# EAGLE library part LM741CN/NOPB (library LM741CN_NOPB)
Check availability <https://pricing.snapeda.com/parts/LM741CN/Texas%20Instruments/view-part?ref=eda>
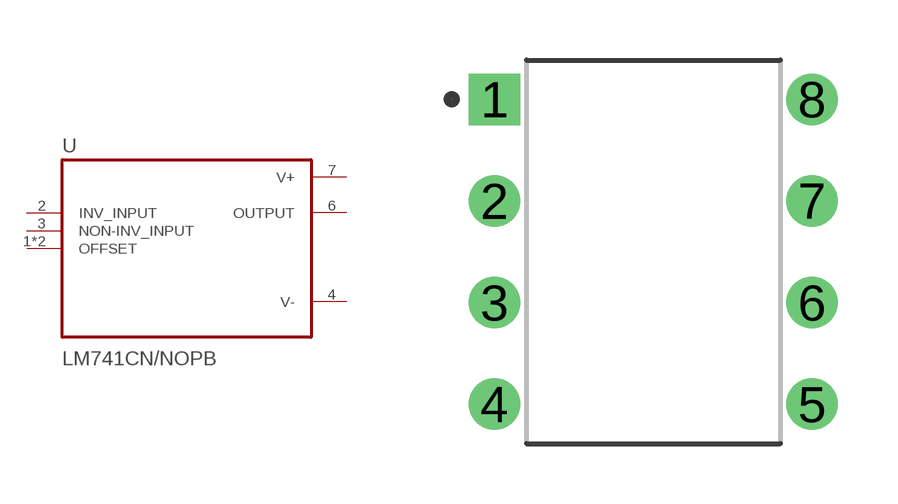
[diagram p0: symbol with the pads of DIP794W45P254L959H508Q8; footprint DIP794W45P254L959H508Q8]

Designator prefix U

## LM741CN/NOPB (Availability: In Stock; Check_prices: https://www.snapeda.com/parts/LM741CN/Texas+Instruments/view-part/?ref=eda; Description: Operational Amplifiers - Op Amps Operational Amplifier 8-PDIP 0 to 70; MF: Texas Instruments; MP: LM741CN; Package: DIP-8 NXP Semiconductors; Price: None; Purchase-URL: https://www.snapeda.com/api/url_track_click_mouser/?unipart_id=226044&manufacturer=Texas Instruments&part_name=LM741CN&search_term=lm741; SnapEDA_Link: https://www.snapeda.com/parts/LM741CN/Texas+Instruments/view-part/?ref=snap)  [DIP794W45P254L959H508Q8]
1  OFFSET  in
2  INV_INPUT  in
3  NON-INV_INPUT  in
4  V-  pwr
5  OFFSET  in
6  OUTPUT  out
7  V+  pwr

## Footprint DIP794W45P254L959H508Q8 (pad centres in mm)
drill 0.78 pad 1.13 square: 1 -3.97,3.81
drill 0.78 pad 1.13: 2 -3.97,1.27; 3 -3.97,-1.27; 4 -3.97,-3.81; 5 3.97,-3.81; 6 3.97,-1.27; 7 3.97,1.27; 8 3.97,3.81